# Altium schematic symbol library Micron_2Gb_FlashNand.SchLib: 1 symbol
Pins are listed as number, name and electrical type; pins without a type are passive.

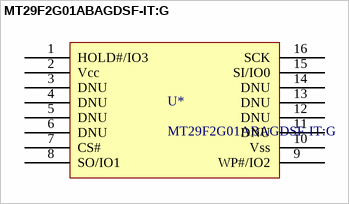
[diagram p0: symbol MT29F2G01ABAGDSF-IT:G]

## MT29F2G01ABAGDSF-IT:G
designator U*
value: MT29F2G01ABAGDSF-IT:G
pins: 1 HOLD#/IO3, 2 Vcc, 3 DNU, 4 DNU, 5 DNU, 6 DNU, 7 CS#, 8 SO/IO1, 9 WP#/IO2, 10 Vss, 11 DNU, 12 DNU, 13 DNU, 14 DNU, 15 SI/IO0, 16 SCK